# Altium footprint library HHE-3-V0.PcbLib: 1 footprints
Each footprint in its own frame and in the unit in brackets; x right, y up, seen from the top. Pads: shape width x height; smd on the part's side, far side on the other; paste and mask are expansions set on the pad; w line width, h text height; cw(c..) or ccw(c..) is an arc to the next point about the centre after c.
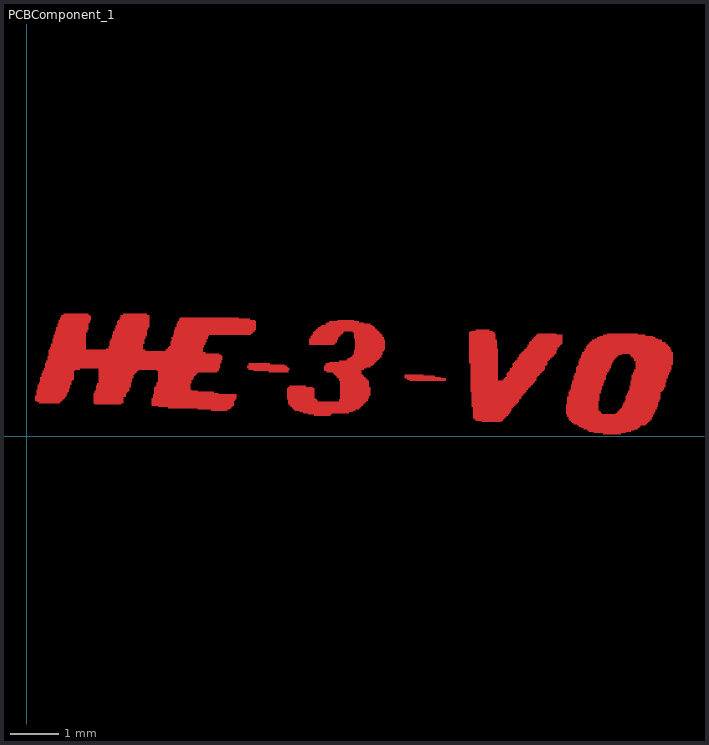
[diagram p0: the footprint, top view; thin cyan lines are the x and y axes]

## PCBComponent_1 [mm]
Top Layer:
  lines w0.03: 0.191,0.724 0.191,0.826 ; 0.216,0.699 0.216,0.953 ; 0.241,0.699 0.241,1.054 ; 0.267,0.673 0.267,1.105 ; 0.292,0.673 0.292,1.206 ; 0.318,0.673 0.318,1.283 ; 0.343,0.673 0.343,1.333 ; 0.368,0.673 0.368,1.384 ; 0.394,0.673 0.394,1.486 ; 0.419,0.673 0.419,1.537 ; 0.445,0.673 0.445,1.638 ; 0.47,0.673 0.47,1.765 ; 0.495,0.673 0.495,1.816 ; 0.521,0.673 0.521,1.892 ; 0.546,0.673 0.546,1.994 ; 0.572,0.673 0.572,2.07 ; 0.597,0.673 0.597,2.146 ; 0.622,0.673 0.622,2.222 ; 0.648,0.673 0.648,2.299 ; 0.673,0.673 0.673,2.375 ; 0.699,0.699 0.699,2.426 ; 0.724,0.724 0.724,2.476 ; 0.749,0.749 0.749,2.476 ; 0.775,0.775 0.775,2.502 ; 0.8,0.8 0.8,2.502 ; 0.826,0.851 0.826,2.502 ; 0.851,0.902 0.851,2.502 ; 0.876,0.978 0.876,2.502 ; 0.902,1.054 0.902,2.502 ; 0.927,1.13 0.927,2.502 ; 0.953,1.156 0.953,2.502 ; 0.978,1.333 0.978,2.502 ; 1.003,1.359 1.003,2.502 ; 1.029,1.359 1.029,2.502 ; 1.054,1.359 1.054,2.502 ; 1.079,1.359 1.079,2.502 ; 1.105,1.384 1.105,2.502 ; 1.13,1.384 1.13,2.502 ; 1.156,1.384 1.156,2.502 ; 1.181,1.384 1.181,2.502 ; 1.206,1.384 1.206,2.502 ; 1.232,1.384 1.232,1.765 ; 1.232,2.121 1.232,2.502 ; 1.257,1.384 1.257,1.765 ; 1.257,2.172 1.257,2.502 ; 1.283,1.384 1.283,1.765 ; 1.283,2.324 1.283,2.476 ; 1.308,1.384 1.308,1.765 ; 1.308,2.375 1.308,2.451 ; 1.333,1.384 1.333,1.765 ; 1.359,1.384 1.359,1.765 ; 1.384,0.673 1.384,0.876 ; 1.384,1.384 1.384,1.765 ; 1.41,0.648 1.41,0.927 ; 1.41,1.384 1.41,1.765 ; 1.435,0.648 1.435,1.029 ; 1.435,1.384 1.435,1.765 ; 1.46,0.648 1.46,1.079 ; 1.46,1.384 1.46,1.765 ; 1.486,0.648 1.486,1.765 ; 1.511,0.648 1.511,1.765 ; 1.537,0.648 1.537,1.765 ; 1.562,0.648 1.562,1.765 ; 1.587,0.648 1.587,1.765 ; 1.613,0.648 1.613,1.765 ; 1.638,0.648 1.638,1.791 ; 1.664,0.648 1.664,1.791 ; 1.689,0.648 1.689,1.841 ; 1.714,0.648 1.714,1.943 ; 1.74,0.648 1.74,1.994 ; 1.765,0.648 1.765,2.07 ; 1.791,0.648 1.791,2.146 ; 1.816,0.648 1.816,2.197 ; 1.841,0.648 1.841,2.273 ; 1.867,0.648 1.867,2.349 ; 1.892,0.648 1.892,2.375 ; 1.918,0.648 1.918,2.426 ; 1.943,0.673 1.943,2.476 ; 1.968,0.673 1.968,2.476 ; 1.994,0.8 1.994,2.502 ; 2.019,0.8 2.019,2.502 ; 2.045,0.876 2.045,2.502 ; 2.07,0.902 2.07,2.502 ; 2.095,0.927 2.095,2.502 ; 2.121,1.003 2.121,2.502 ; 2.146,1.105 2.146,2.502 ; 2.172,1.181 2.172,2.502 ; 2.197,1.257 2.197,2.502 ; 2.222,1.283 2.222,2.502 ; 2.248,1.308 2.248,2.502 ; 2.273,1.333 2.273,2.502 ; 2.299,1.359 2.299,2.502 ; 2.324,1.359 2.324,2.502 ; 2.349,1.359 2.349,2.502 ; 2.375,1.359 2.375,2.502 ; 2.4,1.359 2.4,1.765 ; 2.4,1.892 2.4,2.502 ; 2.426,1.359 2.426,1.765 ; 2.426,1.994 2.426,2.502 ; 2.451,1.359 2.451,1.74 ; 2.451,2.045 2.451,2.502 ; 2.476,1.359 2.476,1.74 ; 2.476,2.172 2.476,2.476 ; 2.502,1.359 2.502,1.74 ; 2.502,2.222 2.502,2.476 ; 2.527,1.359 2.527,1.74 ; 2.553,1.359 2.553,1.74 ; 2.578,0.622 2.578,0.775 ; 2.578,1.359 2.578,1.74 ; 2.603,0.622 2.603,0.851 ; 2.603,1.359 2.603,1.74 ; 2.629,0.622 2.629,1.003 ; 2.629,1.359 2.629,1.74 ; 2.654,0.622 2.654,1.029 ; 2.654,1.359 2.654,1.74 ; 2.68,0.622 2.68,1.105 ; 2.68,1.333 2.68,1.74 ; 2.705,0.597 2.705,1.74 ; 2.73,0.597 2.73,1.74 ; 2.756,0.597 2.756,1.74 ; 2.781,0.597 2.781,1.74 ; 2.807,0.597 2.807,1.74 ; 2.832,0.597 2.832,1.74 ; 2.857,0.597 2.857,1.765 ; 2.883,0.597 2.883,1.791 ; 2.908,0.572 2.908,1.816 ; 2.934,0.572 2.934,1.841 ; 2.959,0.572 2.959,1.943 ; 2.984,0.572 2.984,2.019 ; 3.01,0.572 3.01,2.07 ; 3.035,0.572 3.035,2.172 ; 3.061,0.572 3.061,2.222 ; 3.086,0.572 3.086,2.299 ; 3.111,0.572 3.111,2.349 ; 3.137,0.572 3.137,2.4 ; 3.162,0.572 3.162,2.426 ; 3.188,0.572 3.188,2.426 ; 3.213,0.572 3.213,2.426 ; 3.238,0.572 3.238,2.426 ; 3.264,0.572 3.264,2.426 ; 3.289,0.572 3.289,2.426 ; 3.315,0.572 3.315,2.426 ; 3.34,0.572 3.34,2.426 ; 3.365,0.572 3.365,0.953 ; 3.365,1.079 3.365,2.426 ; 3.391,0.572 3.391,0.927 ; 3.391,1.156 3.391,2.426 ; 3.416,0.572 3.416,0.927 ; 3.416,1.181 3.416,2.426 ; 3.442,0.572 3.442,0.927 ; 3.442,1.232 3.442,2.426 ; 3.467,0.572 3.467,0.927 ; 3.467,1.257 3.467,2.426 ; 3.492,0.572 3.492,0.927 ; 3.492,1.283 3.492,2.426 ; 3.518,0.546 3.518,0.902 ; 3.518,1.308 3.518,2.426 ; 3.543,0.546 3.543,0.902 ; 3.543,1.308 3.543,2.426 ; 3.569,0.546 3.569,0.902 ; 3.569,1.308 3.569,2.426 ; 3.594,0.546 3.594,0.902 ; 3.594,1.308 3.594,2.426 ; 3.619,0.546 3.619,0.902 ; 3.619,1.308 3.619,1.714 ; 3.619,1.816 3.619,2.426 ; 3.645,0.546 3.645,0.902 ; 3.645,1.308 3.645,1.714 ; 3.645,1.867 3.645,2.426 ; 3.67,0.546 3.67,0.902 ; 3.67,1.308 3.67,1.689 ; 3.67,1.918 3.67,2.426 ; 3.696,0.546 3.696,0.902 ; 3.696,1.308 3.696,1.689 ; 3.696,1.994 3.696,2.426 ; 3.721,0.546 3.721,0.902 ; 3.721,1.308 3.721,1.689 ; 3.721,2.045 3.721,2.426 ; 3.746,0.546 3.746,0.902 ; 3.746,1.308 3.746,1.689 ; 3.746,2.07 3.746,2.426 ; 3.772,0.546 3.772,0.902 ; 3.772,1.308 3.772,1.689 ; 3.772,2.07 3.772,2.426 ; 3.797,0.521 3.797,0.902 ; 3.797,1.308 3.797,1.689 ; 3.797,2.07 3.797,2.426 ; 3.823,0.521 3.823,0.902 ; 3.823,1.308 3.823,1.689 ; 3.823,2.07 3.823,2.426 ; 3.848,0.521 3.848,0.876 ; 3.848,1.308 3.848,1.689 ; 3.848,2.07 3.848,2.426 ; 3.873,0.521 3.873,0.876 ; 3.873,1.308 3.873,1.689 ; 3.873,2.07 3.873,2.426 ; 3.899,0.521 3.899,0.876 ; 3.899,1.308 3.899,1.689 ; 3.899,2.07 3.899,2.426 ; 3.924,0.521 3.924,0.876 ; 3.924,1.333 3.924,1.689 ; 3.924,2.07 3.924,2.426 ; 3.95,0.521 3.95,0.851 ; 3.95,1.384 3.95,1.664 ; 3.95,2.07 3.95,2.426 ; 3.975,0.521 3.975,0.851 ; 3.975,1.486 3.975,1.664 ; 3.975,2.07 3.975,2.426 ; 4,0.521 4,0.851 ; 4,1.562 4,1.638 ; 4,2.07 4,2.426 ; 4.026,0.521 4.026,0.851 ; 4.026,2.07 4.026,2.426 ; 4.051,0.521 4.051,0.851 ; 4.051,2.07 4.051,2.426 ; 4.077,0.521 4.077,0.851 ; 4.077,2.07 4.077,2.426 ; 4.102,0.521 4.102,0.851 ; 4.102,2.07 4.102,2.426 ; 4.127,0.546 4.127,0.851 ; 4.127,2.07 4.127,2.426 ; 4.153,0.546 4.153,0.851 ; 4.153,2.07 4.153,2.426 ; 4.178,0.572 4.178,0.851 ; 4.178,2.07 4.178,2.426 ; 4.204,0.597 4.204,0.851 ; 4.204,2.07 4.204,2.426 ; 4.229,0.622 4.229,0.851 ; 4.229,2.07 4.229,2.426 ; 4.255,0.724 4.255,0.851 ; 4.255,2.07 4.255,2.426 ; 4.28,0.749 4.28,0.851 ; 4.28,2.07 4.28,2.426 ; 4.305,2.07 4.305,2.426 ; 4.331,2.07 4.331,2.426 ; 4.356,2.07 4.356,2.4 ; 4.381,2.07 4.381,2.4 ; 4.407,2.07 4.407,2.4 ; 4.432,2.07 4.432,2.4 ; 4.458,2.07 4.458,2.4 ; 4.483,2.07 4.483,2.4 ; 4.508,2.07 4.508,2.4 ; 4.534,1.384 4.534,1.435 ; 4.534,2.07 4.534,2.4 ; 4.559,1.359 4.559,1.486 ; 4.559,2.07 4.559,2.4 ; 4.585,1.359 4.585,1.486 ; 4.585,2.07 4.585,2.375 ; 4.61,1.359 4.61,1.486 ; 4.61,2.095 4.61,2.375 ; 4.635,1.359 4.635,1.486 ; 4.635,2.121 4.635,2.375 ; 4.661,1.333 4.661,1.486 ; 4.661,2.146 4.661,2.375 ; 4.686,1.333 4.686,1.486 ; 4.686,2.172 4.686,2.349 ; 4.712,1.333 4.712,1.486 ; 4.737,1.333 4.737,1.486 ; 4.763,1.333 4.763,1.486 ; 4.788,1.333 4.788,1.486 ; 4.813,1.333 4.813,1.486 ; 4.839,1.333 4.839,1.486 ; 4.864,1.333 4.864,1.486 ; 4.889,1.333 4.889,1.486 ; 4.915,1.333 4.915,1.486 ; 4.94,1.333 4.94,1.486 ; 4.966,1.308 4.966,1.486 ; 4.991,1.308 4.991,1.46 ; 5.016,1.308 5.016,1.46 ; 5.042,1.308 5.042,1.46 ; 5.067,1.308 5.067,1.46 ; 5.093,1.308 5.093,1.46 ; 5.118,1.308 5.118,1.46 ; 5.143,1.308 5.143,1.46 ; 5.169,1.308 5.169,1.46 ; 5.194,1.308 5.194,1.46 ; 5.22,1.308 5.22,1.46 ; 5.245,1.308 5.245,1.46 ; 5.271,1.308 5.271,1.46 ; 5.296,1.308 5.296,1.435 ; 5.321,1.308 5.321,1.435 ; 5.347,0.749 5.347,0.978 ; 5.347,1.308 5.347,1.41 ; 5.372,0.648 5.372,1.003 ; 5.372,1.359 5.372,1.384 ; 5.397,0.622 5.397,1.029 ; 5.423,0.597 5.423,1.029 ; 5.448,0.572 5.448,1.029 ; 5.474,0.546 5.474,1.029 ; 5.499,0.521 5.499,1.029 ; 5.524,0.521 5.524,1.029 ; 5.55,0.521 5.55,1.029 ; 5.575,0.521 5.575,1.029 ; 5.601,0.495 5.601,1.029 ; 5.626,0.495 5.626,1.029 ; 5.651,0.495 5.651,1.029 ; 5.677,0.47 5.677,1.029 ; 5.702,0.47 5.702,1.029 ; 5.728,0.47 5.728,1.003 ; 5.753,0.47 5.753,1.003 ; 5.779,0.445 5.779,1.003 ; 5.804,0.445 5.804,1.003 ; 5.804,1.867 5.804,1.994 ; 5.829,0.445 5.829,1.003 ; 5.829,1.867 5.829,2.045 ; 5.855,0.445 5.855,1.003 ; 5.855,1.867 5.855,2.07 ; 5.88,0.445 5.88,0.978 ; 5.88,1.867 5.88,2.121 ; 5.905,0.419 5.905,0.775 ; 5.905,1.867 5.905,2.146 ; 5.931,0.419 5.931,0.749 ; 5.931,1.867 5.931,2.172 ; 5.956,0.419 5.956,0.724 ; 5.956,1.867 5.956,2.197 ; 5.982,0.419 5.982,0.699 ; 5.982,1.867 5.982,2.222 ; 6.007,0.419 6.007,0.699 ; 6.007,1.867 6.007,2.222 ; 6.032,0.419 6.032,0.699 ; 6.032,1.867 6.032,2.248 ; 6.058,0.419 6.058,0.699 ; 6.058,1.867 6.058,2.273 ; 6.083,0.419 6.083,0.699 ; 6.083,1.867 6.083,2.273 ; 6.109,0.419 6.109,0.699 ; 6.109,1.333 6.109,1.435 ; 6.109,1.867 6.109,2.273 ; 6.134,0.419 6.134,0.699 ; 6.134,1.333 6.134,1.486 ; 6.134,1.867 6.134,2.299 ; 6.159,0.419 6.159,0.699 ; 6.159,1.308 6.159,1.486 ; 6.159,1.867 6.159,2.324 ; 6.185,0.419 6.185,0.699 ; 6.185,1.308 6.185,1.486 ; 6.185,1.867 6.185,2.324 ; 6.21,0.419 6.21,0.699 ; 6.21,1.308 6.21,1.511 ; 6.21,1.867 6.21,2.349 ; 6.236,0.445 6.236,0.699 ; 6.236,1.308 6.236,1.511 ; 6.236,1.867 6.236,2.349 ; 6.261,0.47 6.261,0.699 ; 6.261,1.308 6.261,1.511 ; 6.261,1.867 6.261,2.349 ; 6.286,0.47 6.286,0.699 ; 6.286,1.283 6.286,1.511 ; 6.286,1.867 6.286,2.349 ; 6.312,0.47 6.312,0.699 ; 6.312,1.257 6.312,1.511 ; 6.312,1.892 6.312,2.349 ; 6.337,0.47 6.337,0.699 ; 6.337,1.232 6.337,1.511 ; 6.337,1.918 6.337,2.349 ; 6.363,0.47 6.363,0.699 ; 6.363,1.206 6.363,1.511 ; 6.363,1.968 6.363,2.349 ; 6.388,0.47 6.388,0.699 ; 6.388,1.181 6.388,1.511 ; 6.388,2.019 6.388,2.375 ; 6.413,0.47 6.413,0.749 ; 6.413,1.13 6.413,1.537 ; 6.413,2.045 6.413,2.375 ; 6.439,0.47 6.439,1.537 ; 6.439,2.07 6.439,2.375 ; 6.464,0.47 6.464,1.537 ; 6.464,2.095 6.464,2.375 ; 6.49,0.47 6.49,1.537 ; 6.49,2.121 6.49,2.375 ; 6.515,0.47 6.515,1.537 ; 6.515,2.146 6.515,2.375 ; 6.54,0.47 6.54,1.537 ; 6.54,2.146 6.54,2.375 ; 6.566,0.47 6.566,1.562 ; 6.566,2.146 6.566,2.375 ; 6.591,0.47 6.591,1.587 ; 6.591,2.146 6.591,2.375 ; 6.617,0.495 6.617,1.587 ; 6.617,2.146 6.617,2.375 ; 6.642,0.495 6.642,1.613 ; 6.642,2.146 6.642,2.375 ; 6.667,0.495 6.667,1.638 ; 6.667,2.146 6.667,2.375 ; 6.693,0.521 6.693,1.664 ; 6.693,2.121 6.693,2.375 ; 6.718,0.521 6.718,1.765 ; 6.718,1.994 6.718,2.349 ; 6.744,0.546 6.744,2.349 ; 6.769,0.546 6.769,2.349 ; 6.794,0.546 6.794,2.349 ; 6.82,0.572 6.82,2.324 ; 6.845,0.597 6.845,2.324 ; 6.871,0.622 6.871,1.257 ; 6.871,1.359 6.871,2.324 ; 6.896,0.648 6.896,1.232 ; 6.896,1.359 6.896,2.324 ; 6.921,0.673 6.921,1.206 ; 6.921,1.384 6.921,2.299 ; 6.947,0.699 6.947,1.181 ; 6.947,1.384 6.947,2.299 ; 6.972,0.724 6.972,1.156 ; 6.972,1.41 6.972,2.299 ; 6.998,0.775 6.998,1.13 ; 6.998,1.41 6.998,2.299 ; 7.023,0.826 7.023,1.003 ; 7.023,1.41 7.023,2.299 ; 7.048,1.435 7.048,2.273 ; 7.074,1.435 7.074,2.273 ; 7.099,1.46 7.099,2.248 ; 7.125,1.486 7.125,2.222 ; 7.15,1.511 7.15,2.197 ; 7.175,1.537 7.175,2.172 ; 7.201,1.562 7.201,2.146 ; 7.226,1.587 7.226,2.121 ; 7.252,1.613 7.252,2.095 ; 7.277,1.664 7.277,2.07 ; 7.302,1.74 7.302,2.019 ; 7.328,1.765 7.328,1.968 ; 7.76,1.181 7.76,1.257 ; 7.785,1.181 7.785,1.257 ; 7.81,1.156 7.81,1.257 ; 7.836,1.156 7.836,1.257 ; 7.861,1.13 7.861,1.257 ; 7.887,1.13 7.887,1.257 ; 7.912,1.13 7.912,1.257 ; 7.938,1.13 7.938,1.257 ; 7.963,1.13 7.963,1.257 ; 7.988,1.13 7.988,1.257 ; 8.014,1.13 8.014,1.257 ; 8.039,1.13 8.039,1.257 ; 8.064,1.13 8.064,1.257 ; 8.09,1.13 8.09,1.257 ; 8.115,1.13 8.115,1.257 ; 8.141,1.13 8.141,1.232 ; 8.166,1.13 8.166,1.232 ; 8.191,1.13 8.191,1.232 ; 8.217,1.13 8.217,1.232 ; 8.242,1.13 8.242,1.232 ; 8.268,1.13 8.268,1.232 ; 8.293,1.13 8.293,1.232 ; 8.319,1.13 8.319,1.232 ; 8.344,1.13 8.344,1.232 ; 8.369,1.13 8.369,1.206 ; 8.395,1.13 8.395,1.206 ; 8.42,1.13 8.42,1.206 ; 8.445,1.13 8.445,1.206 ; 8.471,1.13 8.471,1.206 ; 8.496,1.13 8.496,1.181 ; 8.522,1.13 8.522,1.181 ; 8.547,1.13 8.547,1.181 ; 8.572,1.13 8.572,1.181 ; 9.08,1.486 9.08,2.121 ; 9.106,0.902 9.106,2.146 ; 9.131,0.597 9.131,2.146 ; 9.157,0.368 9.157,2.146 ; 9.182,0.343 9.182,2.146 ; 9.207,0.318 9.207,2.172 ; 9.233,0.318 9.233,2.172 ; 9.258,0.318 9.258,2.172 ; 9.284,0.318 9.284,2.172 ; 9.309,0.318 9.309,2.172 ; 9.335,0.292 9.335,2.172 ; 9.36,0.292 9.36,2.172 ; 9.385,0.292 9.385,2.172 ; 9.411,0.292 9.411,2.172 ; 9.436,0.292 9.436,2.172 ; 9.461,0.292 9.461,2.172 ; 9.487,0.292 9.487,2.146 ; 9.512,0.292 9.512,2.146 ; 9.538,0.292 9.538,2.146 ; 9.563,0.292 9.563,2.121 ; 9.588,0.292 9.588,2.095 ; 9.614,0.292 9.614,1.968 ; 9.639,0.292 9.639,1.791 ; 9.665,0.292 9.665,1.13 ; 9.69,0.292 9.69,1.13 ; 9.716,0.292 9.716,1.13 ; 9.741,0.318 9.741,1.13 ; 9.766,0.343 9.766,1.156 ; 9.792,0.368 9.792,1.181 ; 9.817,0.394 9.817,1.206 ; 9.842,0.419 9.842,1.283 ; 9.868,0.445 9.868,1.308 ; 9.893,0.47 9.893,1.333 ; 9.919,0.521 9.919,1.384 ; 9.944,0.572 9.944,1.41 ; 9.97,0.597 9.97,1.486 ; 9.995,0.622 9.995,1.511 ; 10.02,0.648 10.02,1.537 ; 10.046,0.673 10.046,1.562 ; 10.071,0.699 10.071,1.613 ; 10.096,0.749 10.096,1.664 ; 10.122,0.775 10.122,1.689 ; 10.147,0.826 10.147,1.714 ; 10.173,0.851 10.173,1.74 ; 10.198,0.876 10.198,1.765 ; 10.223,0.902 10.223,1.791 ; 10.249,0.953 10.249,1.816 ; 10.274,0.978 10.274,1.867 ; 10.3,1.003 10.3,1.918 ; 10.325,1.029 10.325,1.943 ; 10.351,1.054 10.351,1.968 ; 10.376,1.079 10.376,1.994 ; 10.401,1.105 10.401,2.019 ; 10.427,1.13 10.427,2.045 ; 10.452,1.206 10.452,2.07 ; 10.477,1.232 10.477,2.095 ; 10.503,1.257 10.503,2.095 ; 10.528,1.283 10.528,2.095 ; 10.554,1.308 10.554,2.095 ; 10.579,1.333 10.579,2.095 ; 10.604,1.359 10.604,2.095 ; 10.63,1.435 10.63,2.095 ; 10.655,1.46 10.655,2.095 ; 10.681,1.537 10.681,2.095 ; 10.706,1.562 10.706,2.095 ; 10.731,1.587 10.731,2.095 ; 10.757,1.613 10.757,2.095 ; 10.782,1.638 10.782,2.095 ; 10.808,1.664 10.808,2.095 ; 10.833,1.689 10.833,2.095 ; 10.858,1.765 10.858,2.07 ; 10.884,1.816 10.884,2.07 ; 10.909,1.841 10.909,2.07 ; 10.935,1.867 10.935,2.07 ; 10.96,1.892 10.96,2.07 ; 11.062,0.445 11.062,0.648 ; 11.087,0.394 11.087,0.8 ; 11.112,0.343 11.112,0.902 ; 11.138,0.318 11.138,0.953 ; 11.163,0.292 11.163,1.054 ; 11.189,0.267 11.189,1.13 ; 11.214,0.241 11.214,1.232 ; 11.239,0.241 11.239,1.283 ; 11.265,0.241 11.265,1.41 ; 11.29,0.216 11.29,1.435 ; 11.316,0.191 11.316,1.537 ; 11.341,0.191 11.341,1.587 ; 11.367,0.165 11.367,1.664 ; 11.392,0.165 11.392,1.714 ; 11.417,0.14 11.417,1.74 ; 11.443,0.14 11.443,1.791 ; 11.468,0.14 11.468,1.841 ; 11.493,0.114 11.493,1.867 ; 11.519,0.089 11.519,1.892 ; 11.544,0.089 11.544,1.918 ; 11.57,0.089 11.57,1.943 ; 11.595,0.089 11.595,1.968 ; 11.62,0.064 11.62,1.968 ; 11.646,0.064 11.646,1.994 ; 11.671,0.064 11.671,1.994 ; 11.697,0.064 11.697,2.019 ; 11.722,0.064 11.722,0.521 ; 11.722,0.724 11.722,2.019 ; 11.747,0.064 11.747,0.495 ; 11.747,0.876 11.747,2.045 ; 11.773,0.064 11.773,0.47 ; 11.773,0.953 11.773,2.045 ; 11.798,0.064 11.798,0.445 ; 11.798,1.029 11.798,2.045 ; 11.824,0.038 11.824,0.445 ; 11.824,1.105 11.824,2.07 ; 11.849,0.038 11.849,0.445 ; 11.849,1.156 11.849,2.07 ; 11.874,0.038 11.874,0.445 ; 11.874,1.257 11.874,2.07 ; 11.9,0.038 11.9,0.445 ; 11.9,1.308 11.9,2.095 ; 11.925,0.038 11.925,0.445 ; 11.925,1.333 11.925,2.095 ; 11.951,0.038 11.951,0.445 ; 11.951,1.384 11.951,2.095 ; 11.976,0.038 11.976,0.445 ; 11.976,1.46 11.976,2.095 ; 12.002,0.038 12.002,0.445 ; 12.002,1.511 12.002,2.095 ; 12.027,0.038 12.027,0.445 ; 12.027,1.562 12.027,2.095 ; 12.052,0.038 12.052,0.445 ; 12.052,1.587 12.052,2.095 ; 12.078,0.038 12.078,0.47 ; 12.078,1.613 12.078,2.095 ; 12.103,0.038 12.103,0.495 ; 12.103,1.638 12.103,2.095 ; 12.128,0.038 12.128,0.521 ; 12.128,1.664 12.128,2.095 ; 12.154,0.038 12.154,0.546 ; 12.154,1.664 12.154,2.095 ; 12.179,0.064 12.179,0.572 ; 12.179,1.664 12.179,2.095 ; 12.205,0.064 12.205,0.622 ; 12.205,1.689 12.205,2.095 ; 12.23,0.064 12.23,0.673 ; 12.23,1.689 12.23,2.095 ; 12.255,0.064 12.255,0.724 ; 12.255,1.689 12.255,2.095 ; 12.281,0.089 12.281,0.826 ; 12.281,1.689 12.281,2.095 ; 12.306,0.089 12.306,0.876 ; 12.306,1.689 12.306,2.095 ; 12.332,0.089 12.332,0.927 ; 12.332,1.689 12.332,2.095 ; 12.357,0.089 12.357,1.029 ; 12.357,1.664 12.357,2.095 ; 12.383,0.114 12.383,1.13 ; 12.383,1.638 12.383,2.095 ; 12.408,0.114 12.408,1.257 ; 12.408,1.613 12.408,2.095 ; 12.433,0.114 12.433,1.308 ; 12.433,1.587 12.433,2.095 ; 12.459,0.14 12.459,1.359 ; 12.459,1.537 12.459,2.095 ; 12.484,0.14 12.484,2.095 ; 12.509,0.14 12.509,2.095 ; 12.535,0.165 12.535,2.07 ; 12.56,0.191 12.56,2.07 ; 12.586,0.216 12.586,2.07 ; 12.611,0.216 12.611,2.07 ; 12.636,0.216 12.636,2.07 ; 12.662,0.216 12.662,2.07 ; 12.687,0.241 12.687,2.045 ; 12.713,0.267 12.713,2.045 ; 12.738,0.292 12.738,2.045 ; 12.763,0.318 12.763,2.045 ; 12.789,0.343 12.789,2.045 ; 12.814,0.394 12.814,2.045 ; 12.84,0.445 12.84,2.019 ; 12.865,0.495 12.865,2.019 ; 12.89,0.546 12.89,1.994 ; 12.916,0.597 12.916,1.994 ; 12.941,0.699 12.941,1.968 ; 12.967,0.749 12.967,1.968 ; 12.992,0.902 12.992,1.968 ; 13.018,0.927 13.018,1.918 ; 13.043,0.953 13.043,1.918 ; 13.068,1.003 13.068,1.918 ; 13.094,1.105 13.094,1.892 ; 13.119,1.181 13.119,1.867 ; 13.144,1.257 13.144,1.841 ; 13.17,1.308 13.17,1.816 ; 13.195,1.359 13.195,1.765 ; 13.221,1.46 13.221,1.714